# Altium schematic symbol library Basics.SchLib: 16 symbols
Pins are listed as number, name and electrical type; pins without a type are passive.

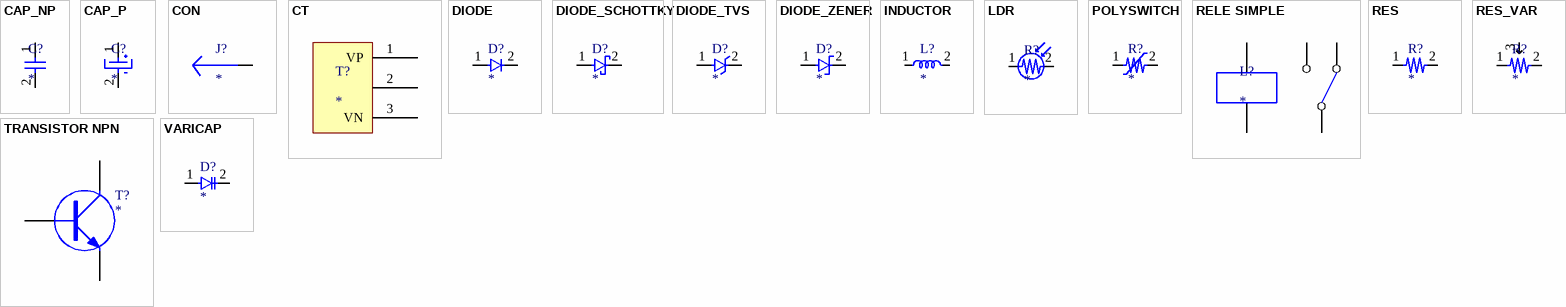
[diagram p0: symbols CAP_NP to VARICAP]

## CAP_NP
designator C?
Not polarized capacitor
footprint C_0805 (Chip Capacitor, 2-Leads, Body 2.00x1.25mm)
footprint C_1206
pins: 1, 2

## CAP_P
designator C?
Polarized capacitor
footprint C_RAD_0.135_H_8X12
footprint C_RAD_0.135_H_8X12_S
pins: 1, 2

## CON
designator J?
Hole
footprint HOLE 1.3 (IN=1.3mm; OUT=2mm)
footprint HOLE 2.8 (IN=2.8mm; OUT=4mm)
pins: 1

## CT
designator T?
Current Transformer
footprint CT (Current transformer)
pins: 1 VP, 2, 3 VN

## DIODE
designator D?
Common diode
footprint D_SMA
footprint D_0805
footprint SOD_123
footprint SOD_323
pins: 1, 2

## DIODE_SCHOTTKY
designator D?
Schottky diode
pins: 1, 2

## DIODE_TVS
designator D?
Transient Voltage Supression diode
footprint SOD_923 (SODFL, 2-Leads, Body 0,60x1,00mm, IPC Medium Density)
pins: 1, 2

## DIODE_ZENER
designator D?
Zener diode
pins: 1, 2

## INDUCTOR
designator L?
Inductor
footprint LQH44
pins: 1, 2

## LDR
designator R?
Light dependant resistor
footprint LDR (Light Dependant Resistor)
pins: 1, 2

## POLYSWITCH
designator R?
POLYSWITCH
footprint NANOSMDC
pins: 1, 2

## RELE SIMPLE
designator L?
Rele de contacto simple
footprint RELE SERIE 964
pins: B1, B2, C1, NA1, NC1

## RES
designator R?
Resistor
footprint R_0805 (Chip Resistor, 2-Leads, Body 2.00x1.25mm, IPC Low Density)
pins: 1, 2

## RES_VAR
designator R?
Variable resistor
pins: 1, 2, 3

## TRANSISTOR NPN
designator T?
Transistor de polaridad NPN
pins: 1 B, 2 C, 3 E

## VARICAP
designator D?
Capacitor variable. Es un semiconductor.
pins: 1, 2